# EAGLE library part 4-641215-0 (library Tyco-U)
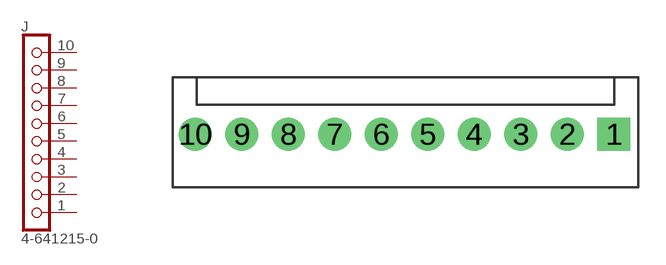
[diagram p0: symbol with the pads of 4-641215-0; footprint 4-641215-0]

Designator prefix J

## 4-641215-0  [4-641215-0]
1  1  pas
2  2  pas
3  3  pas
4  4  pas
5  5  pas
6  6  pas
7  7  pas
8  8  pas
9  9  pas
10  10  pas

## Footprint 4-641215-0 (pad centres in mm)
drill 1 pad 1.8 square: 1 11.38,0
drill 1 pad 1.8: 2 8.84,0; 3 6.3,0; 4 3.76,0; 5 1.22,0; 6 -1.32,0; 7 -3.86,0; 8 -6.4,0; 9 -8.94,0; 10 -11.48,0